# EAGLE library part AT24C64D-XHM-T (library AT24C64D-XHM-T)
EEPROM Serial-2Wire 64K-bit 8K x 8 1.8V/2.5V/3.3V/5V Automotive 8-Pin TSSOP T/R Source: Datasheet <https://componentsearchengine.com/Datasheets/5/AT24C64D-XHM-T.pdf>
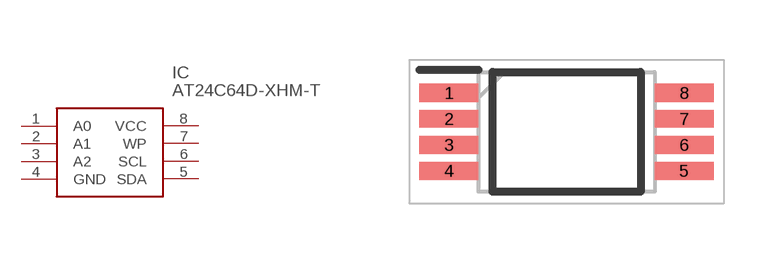
[diagram p0: symbol with the pads of SOP65P640X120-8N; footprint SOP65P640X120-8N]

Designator prefix IC

## AT24C64D-XHM-T (Description: EEPROM Serial-2Wire 64K-bit 8K x 8 1.8V/2.5V/3.3V/5V Automotive 8-Pin TSSOP T/R; Height: 1.2mm; Manufacturer_Name: Microchip; Manufacturer_Part_Number: AT24C64D-XHM-T; Mouser_Part_Number: 556-AT24C64D-XHM-T; Mouser_Price-Stock: https://www.mouser.co.uk/ProductDetail/Microchip-Technology/AT24C64D-XHM-T?qs=ZZMt4ii29sNH3sRTCZitJQ%3D%3D)  [SOP65P640X120-8N]
1  A0
2  A1
3  A2
4  GND
5  SDA
6  SCL
7  WP
8  VCC

## Footprint SOP65P640X120-8N (pad centres in mm)
(TSSOP) ST5
smd 1.475 x 0.45: 1 -2.938,0.975; 2 -2.938,0.325; 3 -2.938,-0.325; 4 -2.938,-0.975; 5 2.938,-0.975; 6 2.938,-0.325; 7 2.938,0.325; 8 2.938,0.975